# Altium footprint library Prog_Temp_Switch.PcbLib: 1 footprints
Each footprint in its own frame and in the unit in brackets; x right, y up, seen from the top. Pads: shape width x height; smd on the part's side, far side on the other; paste and mask are expansions set on the pad; w line width, h text height; cw(c..) or ccw(c..) is an arc to the next point about the centre after c.
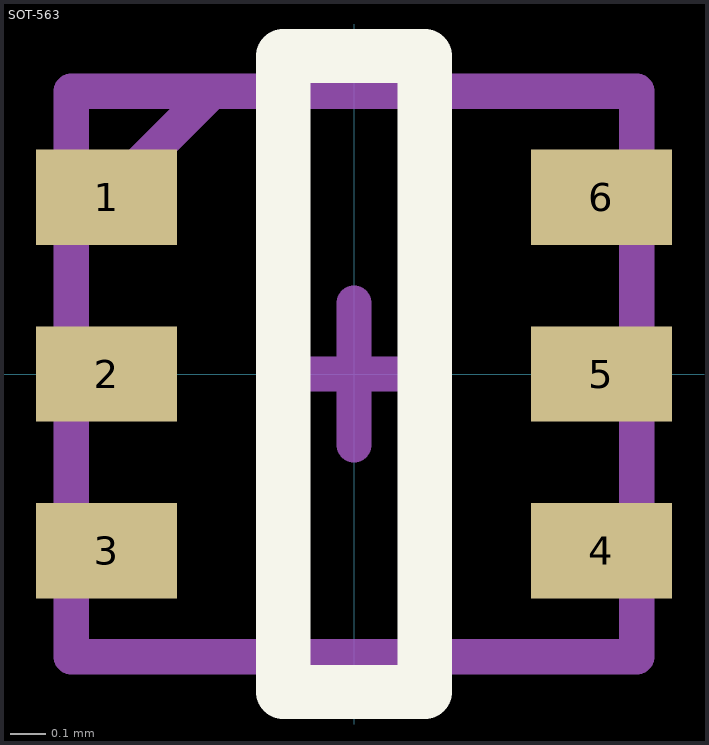
[diagram p0: the footprint, top view; thin cyan lines are the x and y axes]

## SOT-563 [mm]
pads (6):
  rect 0.4x0.27 smd: 1(-0.7,0.5) 2(-0.7,0) 3(-0.7,-0.5) 4(0.7,-0.5) 5(0.7,0) 6(0.7,0.5)
Top Overlay:
  lines w0.153: -0.2,-0.9 -0.2,0.9 0.2,0.9 0.2,-0.9 -0.2,-0.9
  text "." at -0.747,0.953 h0.8
Top Assembly:
  lines w0.1: -0.8,0.4 -0.4,0.8 ; -0.8,-0.8 0.8,-0.8 0.8,0.8 -0.8,0.8 -0.8,-0.8
Mechanical 15:
  lines w0.1: -0.2,0 0,0 ; 0,0 0,0.2 0,0 ; 0,0 0,-0.2 0,0 ; 0,0 0.2,0 0,0 ; -0.8,-0.8 -0.8,0.8 0.8,0.8 0.8,-0.8 -0.8,-0.8
3D body "User Library-SOT-563_TI.STEP": height 0.58, standoff -0.01, extent -0.813,-0.8 0.813,0.8